# Altium schematic symbol library WR-MPC3.SchLib: 235 symbols (part 4 of 5)
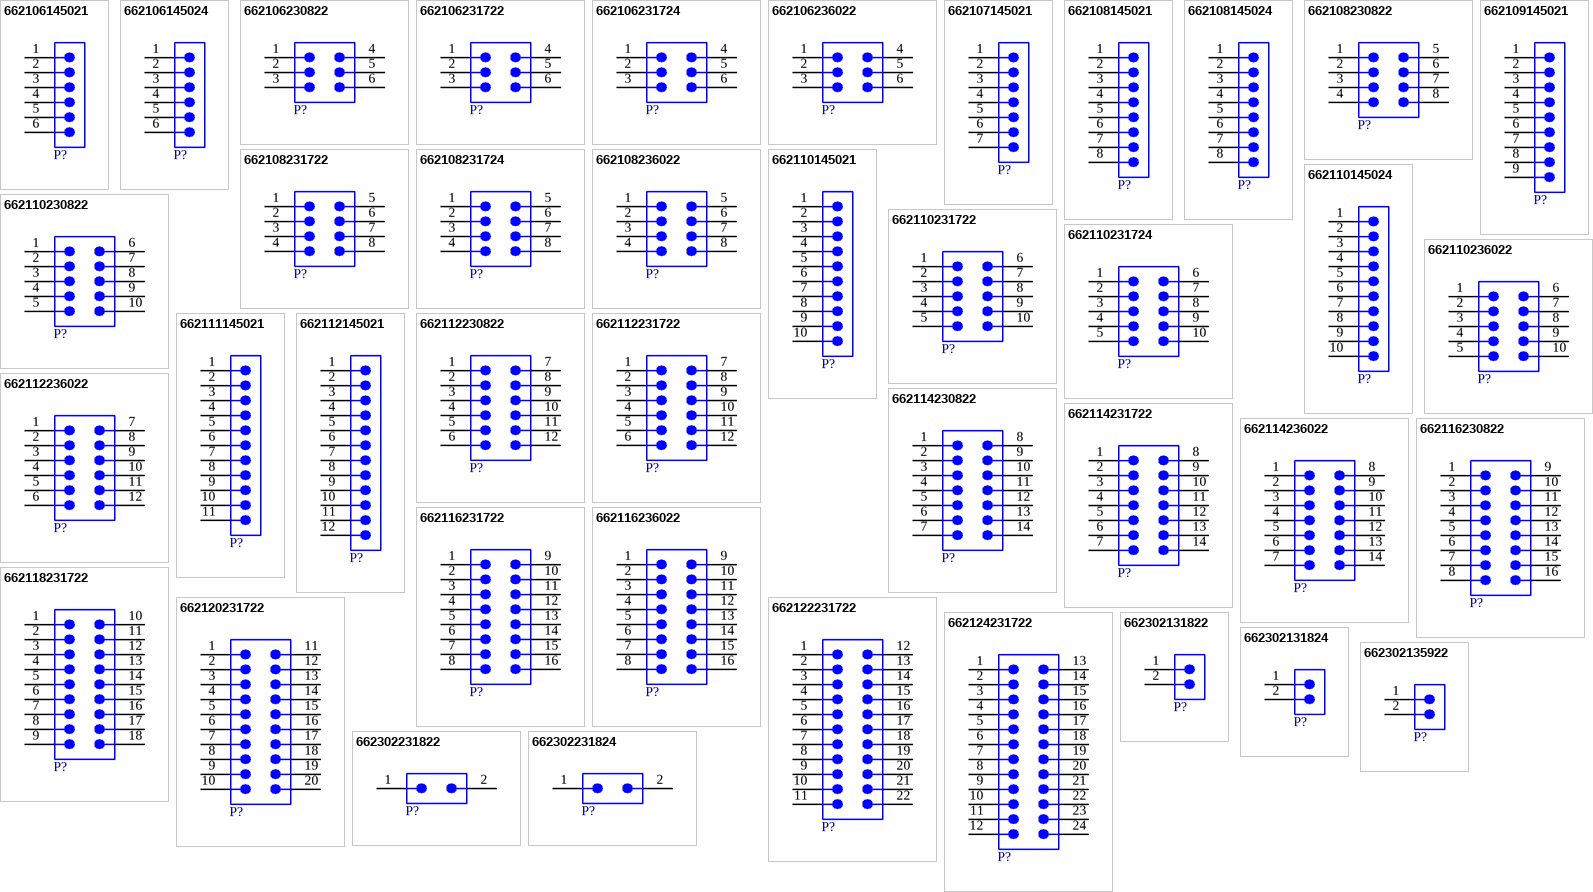
[diagram p8: symbols 662106145021 to 662302231824]

## 662107145021
designator P?  (value not drawn)
WR-MPC3 SMT Male Right Angled Header with SMT Solder Tabs, pitch 3mm, 7p; Manufacturer: Wurth Elektronik; Contact Resistance: 10mOhm; Insulation Resistance: >1000MOhm; Rated Current: 5A; Working Voltage: 250V (AC); Manufacturer Part Number: 662107145021; Category: Wire-to-Board Connectors; Match Code: WR-MPC3; ComponentLink1Description: Website Link; ComponentLink1URL: https://www.we-online.com/redexpert/article/662107145021?ad; ComponentLink2Description: Datasheet Link; ComponentLink2URL: https://www.we-online.com/redexpert/spec/662107145021?ad; Mount: Surface Mount; Operating Temperature Max: 105°C; Operating Temperature Min: -40°C; Packaging: Tape and Reel; Length: 24.65mm; Width: 11.35mm; Height: 5.57mm; Gender: Male; Number of Pins: 7; Number of Rows: 1; Orientation: Right Angled; Pitch: 3mm
footprint 662107145021
pins: 1, 2, 3, 4, 5, 6, 7

## 662108145021
designator P?  (value not drawn)
WR-MPC3 SMT Male Right Angled Header with SMT Solder Tabs, pitch 3mm, 8p; Manufacturer: Wurth Elektronik; Contact Resistance: 10mOhm; Insulation Resistance: >1000MOhm; Rated Current: 5A; Working Voltage: 250V (AC); Manufacturer Part Number: 662108145021; Category: Wire-to-Board Connectors; Match Code: WR-MPC3; ComponentLink1Description: Website Link; ComponentLink1URL: https://www.we-online.com/redexpert/article/662108145021?ad; ComponentLink2Description: Datasheet Link; ComponentLink2URL: https://www.we-online.com/redexpert/spec/662108145021?ad; Mount: Surface Mount; Operating Temperature Max: 105°C; Operating Temperature Min: -40°C; Packaging: Tape and Reel; Length: 27.65mm; Width: 11.35mm; Height: 5.57mm; Gender: Male; Number of Pins: 8; Number of Rows: 1; Orientation: Right Angled; Pitch: 3mm
footprint 662108145021
pins: 1, 2, 3, 4, 5, 6, 7, 8

## 662108145024
designator P?  (value not drawn)
WR-MPC3 SMT Male Header Single Row Right Angled with SMT Solder Tabs (Selective Gold), pitch 3mm, 8p; Manufacturer: Wurth Elektronik; Contact Resistance: 10mOhm; Insulation Resistance: >1000MOhm; Rated Current: 5A; Working Voltage: 250V (AC); Manufacturer Part Number: 662108145024; Category: Wire-to-Board Connectors; Match Code: WR-MPC3; ComponentLink1Description: Website Link; ComponentLink1URL: https://www.we-online.com/redexpert/article/662108145024?ad; ComponentLink2Description: Datasheet Link; ComponentLink2URL: https://www.we-online.com/redexpert/spec/662108145024?ad; Mount: Surface Mount; Operating Temperature Max: 105°C; Operating Temperature Min: -40°C; Packaging: Tape and Reel; Gender: Male; Number of Pins: 8; Number of Rows: 1; Orientation: Right Angled; Pitch: 3mm
footprint 662108145024
pins: 1, 2, 3, 4, 5, 6, 7, 8

## 662108230822
designator P?  (value not drawn)
WR-MPC3 SMT Male Right Angled Header with THT Retention Clip, pitch 3mm, 8p; Manufacturer: Wurth Elektronik; Contact Resistance: 10mOhm; Insulation Resistance: >1000MOhm; Rated Current: 5A; Working Voltage: 250V (AC); Manufacturer Part Number: 662108230822; Category: Wire-to-Board Connectors; Match Code: WR-MPC3; ComponentLink1Description: Website Link; ComponentLink1URL: https://www.we-online.com/redexpert/article/662108230822?ad; ComponentLink2Description: Datasheet Link; ComponentLink2URL: https://www.we-online.com/redexpert/spec/662108230822?ad; Mount: Surface Mount; Operating Temperature Max: 105°C; Operating Temperature Min: -40°C; Packaging: Tape and Reel; Length: 15.7mm; Width: 15.9mm; Height: 8.76mm; Gender: Male; Number of Pins: 8; Number of Rows: 2; Orientation: Right Angled; Pitch: 3mm
footprint 662108230822
pins: 1, 2, 3, 4, 5, 6, 7, 8

## 662108231722
designator P?  (value not drawn)
WR-MPC3 SMT Male Right Angled Header with SMT Solder Tab, pitch 3mm, 8p; Manufacturer: Wurth Elektronik; Contact Resistance: 10mOhm; Insulation Resistance: >1000MOhm; Rated Current: 5A; Working Voltage: 250V (AC); Manufacturer Part Number: 662108231722; Category: Wire-to-Board Connectors; Match Code: WR-MPC3; ComponentLink1Description: Website Link; ComponentLink1URL: https://www.we-online.com/redexpert/article/662108231722?ad; ComponentLink2Description: Datasheet Link; ComponentLink2URL: https://www.we-online.com/redexpert/spec/662108231722?ad; Mount: Surface Mount; Operating Temperature Max: 105°C; Operating Temperature Min: -40°C; Packaging: Tape and Reel; Length: 15.7mm; Width: 9.9mm; Height: 8.76mm; Gender: Male; Number of Pins: 8; Number of Rows: 2; Orientation: Right Angled; Pitch: 3mm
footprint 662108231722
pins: 1, 2, 3, 4, 5, 6, 7, 8

## 662108231724
designator P?  (value not drawn)
WR-MPC3 SMT Male Header Dual Row Right Angled with SMT Solder Tabs (Selective Gold), pitch 3mm, 8p; Manufacturer: Wurth Elektronik; Contact Resistance: 10mOhm; Insulation Resistance: >1000MOhm; Rated Current: 5A; Working Voltage: 250V (AC); Manufacturer Part Number: 662108231724; Category: Wire-to-Board Connectors; Match Code: WR-MPC3; ComponentLink1Description: Website Link; ComponentLink1URL: https://www.we-online.com/redexpert/article/662108231724?ad; ComponentLink2Description: Datasheet Link; ComponentLink2URL: https://www.we-online.com/redexpert/spec/662108231724?ad; Mount: Surface Mount; Operating Temperature Max: 105°C; Operating Temperature Min: -40°C; Packaging: Tape and Reel; Gender: Male; Number of Pins: 8; Number of Rows: 2; Orientation: Right Angled; Pitch: 3mm
footprint 662108231724
pins: 1, 2, 3, 4, 5, 6, 7, 8

## 662108236022
designator P?  (value not drawn)
WR-MPC3 SMT Male Right Angled Header with Plastic Pegs, pitch 3mm, 8p; Manufacturer: Wurth Elektronik; Contact Resistance: 10mOhm; Insulation Resistance: >1000MOhm; Rated Current: 5A; Working Voltage: 250V (AC); Manufacturer Part Number: 662108236022; Category: Wire-to-Board Connectors; Match Code: WR-MPC3; ComponentLink1Description: Website Link; ComponentLink1URL: https://www.we-online.com/redexpert/article/662108236022?ad; ComponentLink2Description: Datasheet Link; ComponentLink2URL: https://www.we-online.com/redexpert/spec/662108236022?ad; Mount: Surface Mount; Operating Temperature Max: 105°C; Operating Temperature Min: -40°C; Packaging: Tape and Reel; Length: 15.7mm; Width: 9.9mm; Height: 8.76mm; Gender: Male; Number of Pins: 8; Number of Rows: 2; Orientation: Right Angled; Pitch: 3mm
footprint 662108236022
pins: 1, 2, 3, 4, 5, 6, 7, 8

## 662109145021
designator P?  (value not drawn)
WR-MPC3 SMT Male Right Angled Header with SMT Solder Tabs, pitch 3mm, 9p; Manufacturer: Wurth Elektronik; Contact Resistance: 10mOhm; Insulation Resistance: >1000MOhm; Rated Current: 5A; Working Voltage: 250V (AC); Manufacturer Part Number: 662109145021; Category: Wire-to-Board Connectors; Match Code: WR-MPC3; ComponentLink1Description: Website Link; ComponentLink1URL: https://www.we-online.com/redexpert/article/662109145021?ad; ComponentLink2Description: Datasheet Link; ComponentLink2URL: https://www.we-online.com/redexpert/spec/662109145021?ad; Mount: Surface Mount; Operating Temperature Max: 105°C; Operating Temperature Min: -40°C; Packaging: Tape and Reel; Length: 30.65mm; Width: 11.35mm; Height: 5.57mm; Gender: Male; Number of Pins: 9; Number of Rows: 1; Orientation: Right Angled; Pitch: 3mm
footprint 662109145021
pins: 1, 2, 3, 4, 5, 6, 7, 8, 9

## 662110145021
designator P?  (value not drawn)
WR-MPC3 SMT Male Right Angled Header with SMT Solder Tabs, pitch 3mm, 10p; Manufacturer: Wurth Elektronik; Contact Resistance: 10mOhm; Insulation Resistance: >1000MOhm; Rated Current: 5A; Working Voltage: 250V (AC); Manufacturer Part Number: 662110145021; Category: Wire-to-Board Connectors; Match Code: WR-MPC3; ComponentLink1Description: Website Link; ComponentLink1URL: https://www.we-online.com/redexpert/article/662110145021?ad; ComponentLink2Description: Datasheet Link; ComponentLink2URL: https://www.we-online.com/redexpert/spec/662110145021?ad; Mount: Surface Mount; Operating Temperature Max: 105°C; Operating Temperature Min: -40°C; Packaging: Tape and Reel; Length: 33.65mm; Width: 11.35mm; Height: 5.57mm; Gender: Male; Number of Pins: 10; Number of Rows: 1; Orientation: Right Angled; Pitch: 3mm
footprint 662110145021
pins: 1, 2, 3, 4, 5, 6, 7, 8, 9, 10

## 662110145024
designator P?  (value not drawn)
WR-MPC3 SMT Male Header Single Row Right Angled with SMT Solder Tabs (Selective Gold), pitch 3mm, 10p; Manufacturer: Wurth Elektronik; Contact Resistance: 10mOhm; Insulation Resistance: >1000MOhm; Rated Current: 5A; Working Voltage: 250V (AC); Manufacturer Part Number: 662110145024; Category: Wire-to-Board Connectors; Match Code: WR-MPC3; ComponentLink1Description: Website Link; ComponentLink1URL: https://www.we-online.com/redexpert/article/662110145024?ad; ComponentLink2Description: Datasheet Link; ComponentLink2URL: https://www.we-online.com/redexpert/spec/662110145024?ad; Mount: Surface Mount; Operating Temperature Max: 105°C; Operating Temperature Min: -40°C; Packaging: Tape and Reel; Gender: Male; Number of Pins: 10; Number of Rows: 1; Orientation: Right Angled; Pitch: 3mm
footprint 662110145024
pins: 1, 2, 3, 4, 5, 6, 7, 8, 9, 10

## 662110230822
designator P?  (value not drawn)
WR-MPC3 SMT Male Right Angled Header with THT Retention Clip, pitch 3mm, 10p; Manufacturer: Wurth Elektronik; Contact Resistance: 10mOhm; Insulation Resistance: >1000MOhm; Rated Current: 5A; Working Voltage: 250V (AC); Manufacturer Part Number: 662110230822; Category: Wire-to-Board Connectors; Match Code: WR-MPC3; ComponentLink1Description: Website Link; ComponentLink1URL: https://www.we-online.com/redexpert/article/662110230822?ad; ComponentLink2Description: Datasheet Link; ComponentLink2URL: https://www.we-online.com/redexpert/spec/662110230822?ad; Mount: Surface Mount; Operating Temperature Max: 105°C; Operating Temperature Min: -40°C; Packaging: Tape and Reel; Length: 18.7mm; Width: 15.9mm; Height: 8.76mm; Gender: Male; Number of Pins: 10; Number of Rows: 2; Orientation: Right Angled; Pitch: 3mm
footprint 662110230822
pins: 1, 2, 3, 4, 5, 6, 7, 8, 9, 10

## 662110231722
designator P?  (value not drawn)
WR-MPC3 SMT Male Right Angled Header with SMT Solder Tab, pitch 3mm, 10p; Manufacturer: Wurth Elektronik; Contact Resistance: 10mOhm; Insulation Resistance: >1000MOhm; Rated Current: 5A; Working Voltage: 250V (AC); Manufacturer Part Number: 662110231722; Category: Wire-to-Board Connectors; Match Code: WR-MPC3; ComponentLink1Description: Website Link; ComponentLink1URL: https://www.we-online.com/redexpert/article/662110231722?ad; ComponentLink2Description: Datasheet Link; ComponentLink2URL: https://www.we-online.com/redexpert/spec/662110231722?ad; Mount: Surface Mount; Operating Temperature Max: 105°C; Operating Temperature Min: -40°C; Packaging: Tape and Reel; Length: 18.7mm; Width: 9.9mm; Height: 8.76mm; Gender: Male; Number of Pins: 10; Number of Rows: 2; Orientation: Right Angled; Pitch: 3mm
footprint 662110231722
pins: 1, 2, 3, 4, 5, 6, 7, 8, 9, 10

## 662110231724
designator P?  (value not drawn)
WR-MPC3 SMT Male Header Dual Row Right Angled with SMT Solder Tabs (Selective Gold), pitch 3mm, 10p; Manufacturer: Wurth Elektronik; Contact Resistance: 10mOhm; Insulation Resistance: >1000MOhm; Rated Current: 5A; Working Voltage: 250V (AC); Manufacturer Part Number: 662110231724; Category: Wire-to-Board Connectors; Match Code: WR-MPC3; ComponentLink1Description: Website Link; ComponentLink1URL: https://www.we-online.com/redexpert/article/662110231724?ad; ComponentLink2Description: Datasheet Link; ComponentLink2URL: https://www.we-online.com/redexpert/spec/662110231724?ad; Mount: Surface Mount; Operating Temperature Max: 105°C; Operating Temperature Min: -40°C; Packaging: Tape and Reel; Gender: Male; Number of Pins: 10; Number of Rows: 2; Orientation: Right Angled; Pitch: 3mm
footprint 662110231724
pins: 1, 2, 3, 4, 5, 6, 7, 8, 9, 10

## 662110236022
designator P?  (value not drawn)
WR-MPC3 SMT Male Right Angled Header with Plastic Pegs, pitch 3mm, 10p; Manufacturer: Wurth Elektronik; Contact Resistance: 10mOhm; Insulation Resistance: >1000MOhm; Rated Current: 5A; Working Voltage: 250V (AC); Manufacturer Part Number: 662110236022; Category: Wire-to-Board Connectors; Match Code: WR-MPC3; ComponentLink1Description: Website Link; ComponentLink1URL: https://www.we-online.com/redexpert/article/662110236022?ad; ComponentLink2Description: Datasheet Link; ComponentLink2URL: https://www.we-online.com/redexpert/spec/662110236022?ad; Mount: Surface Mount; Operating Temperature Max: 105°C; Operating Temperature Min: -40°C; Packaging: Tape and Reel; Length: 18.7mm; Width: 9.9mm; Height: 8.76mm; Gender: Male; Number of Pins: 10; Number of Rows: 2; Orientation: Right Angled; Pitch: 3mm
footprint 662110236022
pins: 1, 2, 3, 4, 5, 6, 7, 8, 9, 10

## 662111145021
designator P?  (value not drawn)
WR-MPC3 SMT Male Right Angled Header with SMT Solder Tabs, pitch 3mm, 11p; Manufacturer: Wurth Elektronik; Contact Resistance: 10mOhm; Insulation Resistance: >1000MOhm; Rated Current: 5A; Working Voltage: 250V (AC); Manufacturer Part Number: 662111145021; Category: Wire-to-Board Connectors; Match Code: WR-MPC3; ComponentLink1Description: Website Link; ComponentLink1URL: https://www.we-online.com/redexpert/article/662111145021?ad; ComponentLink2Description: Datasheet Link; ComponentLink2URL: https://www.we-online.com/redexpert/spec/662111145021?ad; Mount: Surface Mount; Operating Temperature Max: 105°C; Operating Temperature Min: -40°C; Packaging: Tape and Reel; Length: 36.65mm; Width: 11.35mm; Height: 5.57mm; Gender: Male; Number of Pins: 11; Number of Rows: 1; Orientation: Right Angled; Pitch: 3mm
footprint 662111145021
pins: 1, 2, 3, 4, 5, 6, 7, 8, 9, 10, 11

## 662112145021
designator P?  (value not drawn)
WR-MPC3 SMT Male Right Angled Header with SMT Solder Tabs, pitch 3mm, 12p; Manufacturer: Wurth Elektronik; Contact Resistance: 10mOhm; Insulation Resistance: >1000MOhm; Rated Current: 5A; Working Voltage: 250V (AC); Manufacturer Part Number: 662112145021; Category: Wire-to-Board Connectors; Match Code: WR-MPC3; ComponentLink1Description: Website Link; ComponentLink1URL: https://www.we-online.com/redexpert/article/662112145021?ad; ComponentLink2Description: Datasheet Link; ComponentLink2URL: https://www.we-online.com/redexpert/spec/662112145021?ad; Mount: Surface Mount; Operating Temperature Max: 105°C; Operating Temperature Min: -40°C; Packaging: Tape and Reel; Length: 39.65mm; Width: 11.35mm; Height: 5.57mm; Gender: Male; Number of Pins: 12; Number of Rows: 1; Orientation: Right Angled; Pitch: 3mm
footprint 662112145021
pins: 1, 2, 3, 4, 5, 6, 7, 8, 9, 10, 11, 12

## 662112230822
designator P?  (value not drawn)
WR-MPC3 SMT Male Right Angled Header with THT Retention Clip, pitch 3mm, 12p; Manufacturer: Wurth Elektronik; Contact Resistance: 10mOhm; Insulation Resistance: >1000MOhm; Rated Current: 5A; Working Voltage: 250V (AC); Manufacturer Part Number: 662112230822; Category: Wire-to-Board Connectors; Match Code: WR-MPC3; ComponentLink1Description: Website Link; ComponentLink1URL: https://www.we-online.com/redexpert/article/662112230822?ad; ComponentLink2Description: Datasheet Link; ComponentLink2URL: https://www.we-online.com/redexpert/spec/662112230822?ad; Mount: Surface Mount; Operating Temperature Max: 105°C; Operating Temperature Min: -40°C; Packaging: Tape and Reel; Length: 21.7mm; Width: 15.9mm; Height: 8.76mm; Gender: Male; Number of Pins: 12; Number of Rows: 2; Orientation: Right Angled; Pitch: 3mm
footprint 662112230822
pins: 1, 2, 3, 4, 5, 6, 7, 8, 9, 10, 11, 12

## 662112231722
designator P?  (value not drawn)
WR-MPC3 SMT Male Right Angled Header with SMT Solder Tab, pitch 3mm, 12p; Manufacturer: Wurth Elektronik; Contact Resistance: 10mOhm; Insulation Resistance: >1000MOhm; Rated Current: 5A; Working Voltage: 250V (AC); Manufacturer Part Number: 662112231722; Category: Wire-to-Board Connectors; Match Code: WR-MPC3; ComponentLink1Description: Website Link; ComponentLink1URL: https://www.we-online.com/redexpert/article/662112231722?ad; ComponentLink2Description: Datasheet Link; ComponentLink2URL: https://www.we-online.com/redexpert/spec/662112231722?ad; Mount: Surface Mount; Operating Temperature Max: 105°C; Operating Temperature Min: -40°C; Packaging: Tape and Reel; Length: 21.7mm; Width: 9.9mm; Height: 8.76mm; Gender: Male; Number of Pins: 12; Number of Rows: 2; Orientation: Right Angled; Pitch: 3mm
footprint 662112231722
pins: 1, 2, 3, 4, 5, 6, 7, 8, 9, 10, 11, 12

## 662112236022
designator P?  (value not drawn)
WR-MPC3 SMT Male Right Angled Header with Plastic Pegs, pitch 3mm, 12p; Manufacturer: Wurth Elektronik; Contact Resistance: 10mOhm; Insulation Resistance: >1000MOhm; Rated Current: 5A; Working Voltage: 250V (AC); Manufacturer Part Number: 662112236022; Category: Wire-to-Board Connectors; Match Code: WR-MPC3; ComponentLink1Description: Website Link; ComponentLink1URL: https://www.we-online.com/redexpert/article/662112236022?ad; ComponentLink2Description: Datasheet Link; ComponentLink2URL: https://www.we-online.com/redexpert/spec/662112236022?ad; Mount: Surface Mount; Operating Temperature Max: 105°C; Operating Temperature Min: -40°C; Packaging: Tape and Reel; Length: 21.7mm; Width: 9.9mm; Height: 8.76mm; Gender: Male; Number of Pins: 12; Number of Rows: 2; Orientation: Right Angled; Pitch: 3mm
footprint 662112236022
pins: 1, 2, 3, 4, 5, 6, 7, 8, 9, 10, 11, 12

## 662114230822
designator P?  (value not drawn)
WR-MPC3 SMT Male Right Angled Header with THT Retention Clip, pitch 3mm, 14p; Manufacturer: Wurth Elektronik; Contact Resistance: 10mOhm; Insulation Resistance: >1000MOhm; Rated Current: 5A; Working Voltage: 250V (AC); Manufacturer Part Number: 662114230822; Category: Wire-to-Board Connectors; Match Code: WR-MPC3; ComponentLink1Description: Website Link; ComponentLink1URL: https://www.we-online.com/redexpert/article/662114230822?ad; ComponentLink2Description: Datasheet Link; ComponentLink2URL: https://www.we-online.com/redexpert/spec/662114230822?ad; Mount: Surface Mount; Operating Temperature Max: 105°C; Operating Temperature Min: -40°C; Packaging: Tape and Reel; Length: 24.7mm; Width: 15.9mm; Height: 8.76mm; Gender: Male; Number of Pins: 14; Number of Rows: 2; Orientation: Right Angled; Pitch: 3mm
footprint 662114230822
pins: 1, 2, 3, 4, 5, 6, 7, 8, 9, 10, 11, 12, 13, 14

## 662114231722
designator P?  (value not drawn)
WR-MPC3 SMT Male Right Angled Header with SMT Solder Tab, pitch 3mm, 14p; Manufacturer: Wurth Elektronik; Contact Resistance: 10mOhm; Insulation Resistance: >1000MOhm; Rated Current: 5A; Working Voltage: 250V (AC); Manufacturer Part Number: 662114231722; Category: Wire-to-Board Connectors; Match Code: WR-MPC3; ComponentLink1Description: Website Link; ComponentLink1URL: https://www.we-online.com/redexpert/article/662114231722?ad; ComponentLink2Description: Datasheet Link; ComponentLink2URL: https://www.we-online.com/redexpert/spec/662114231722?ad; Mount: Surface Mount; Operating Temperature Max: 105°C; Operating Temperature Min: -40°C; Packaging: Tape and Reel; Length: 24.7mm; Width: 9.9mm; Height: 8.76mm; Gender: Male; Number of Pins: 14; Number of Rows: 2; Orientation: Right Angled; Pitch: 3mm
footprint 662114231722
pins: 1, 2, 3, 4, 5, 6, 7, 8, 9, 10, 11, 12, 13, 14

## 662114236022
designator P?  (value not drawn)
WR-MPC3 SMT Male Right Angled Header with Plastic Pegs, pitch 3mm, 14p; Manufacturer: Wurth Elektronik; Contact Resistance: 10mOhm; Insulation Resistance: >1000MOhm; Rated Current: 5A; Working Voltage: 250V (AC); Manufacturer Part Number: 662114236022; Category: Wire-to-Board Connectors; Match Code: WR-MPC3; ComponentLink1Description: Website Link; ComponentLink1URL: https://www.we-online.com/redexpert/article/662114236022?ad; ComponentLink2Description: Datasheet Link; ComponentLink2URL: https://www.we-online.com/redexpert/spec/662114236022?ad; Mount: Surface Mount; Operating Temperature Max: 105°C; Operating Temperature Min: -40°C; Packaging: Tape and Reel; Length: 24.7mm; Width: 9.9mm; Height: 8.76mm; Gender: Male; Number of Pins: 14; Number of Rows: 2; Orientation: Right Angled; Pitch: 3mm
footprint 662114236022
pins: 1, 2, 3, 4, 5, 6, 7, 8, 9, 10, 11, 12, 13, 14

## 662116230822
designator P?  (value not drawn)
WR-MPC3 SMT Male Right Angled Header with THT Retention Clip, pitch 3mm, 16p; Manufacturer: Wurth Elektronik; Contact Resistance: 10mOhm; Insulation Resistance: >1000MOhm; Rated Current: 5A; Working Voltage: 250V (AC); Manufacturer Part Number: 662116230822; Category: Wire-to-Board Connectors; Match Code: WR-MPC3; ComponentLink1Description: Website Link; ComponentLink1URL: https://www.we-online.com/redexpert/article/662116230822?ad; ComponentLink2Description: Datasheet Link; ComponentLink2URL: https://www.we-online.com/redexpert/spec/662116230822?ad; Mount: Surface Mount; Operating Temperature Max: 105°C; Operating Temperature Min: -40°C; Packaging: Tape and Reel; Length: 27.7mm; Width: 15.9mm; Height: 8.76mm; Gender: Male; Number of Pins: 16; Number of Rows: 2; Orientation: Right Angled; Pitch: 3mm
footprint 662116230822
pins: 1, 2, 3, 4, 5, 6, 7, 8, 9, 10, 11, 12, 13, 14, 15, 16

## 662116231722
designator P?  (value not drawn)
WR-MPC3 SMT Male Right Angled Header with SMT Solder Tab, pitch 3mm, 16p; Manufacturer: Wurth Elektronik; Contact Resistance: 10mOhm; Insulation Resistance: >1000MOhm; Rated Current: 5A; Working Voltage: 250V (AC); Manufacturer Part Number: 662116231722; Category: Wire-to-Board Connectors; Match Code: WR-MPC3; ComponentLink1Description: Website Link; ComponentLink1URL: https://www.we-online.com/redexpert/article/662116231722?ad; ComponentLink2Description: Datasheet Link; ComponentLink2URL: https://www.we-online.com/redexpert/spec/662116231722?ad; Mount: Surface Mount; Operating Temperature Max: 105°C; Operating Temperature Min: -40°C; Packaging: Tape and Reel; Length: 27.7mm; Width: 9.9mm; Height: 8.76mm; Gender: Male; Number of Pins: 16; Number of Rows: 2; Orientation: Right Angled; Pitch: 3mm
footprint 662116231722
pins: 1, 2, 3, 4, 5, 6, 7, 8, 9, 10, 11, 12, 13, 14, 15, 16

## 662116236022
designator P?  (value not drawn)
WR-MPC3 SMT Male Right Angled Header with Plastic Pegs, pitch 3mm, 16p; Manufacturer: Wurth Elektronik; Contact Resistance: 10mOhm; Insulation Resistance: >1000MOhm; Rated Current: 5A; Working Voltage: 250V (AC); Manufacturer Part Number: 662116236022; Category: Wire-to-Board Connectors; Match Code: WR-MPC3; ComponentLink1Description: Website Link; ComponentLink1URL: https://www.we-online.com/redexpert/article/662116236022?ad; ComponentLink2Description: Datasheet Link; ComponentLink2URL: https://www.we-online.com/redexpert/spec/662116236022?ad; Mount: Surface Mount; Operating Temperature Max: 105°C; Operating Temperature Min: -40°C; Packaging: Tape and Reel; Length: 27.7mm; Width: 9.9mm; Height: 8.76mm; Gender: Male; Number of Pins: 16; Number of Rows: 2; Orientation: Right Angled; Pitch: 3mm
footprint 662116236022
pins: 1, 2, 3, 4, 5, 6, 7, 8, 9, 10, 11, 12, 13, 14, 15, 16

## 662118231722
designator P?  (value not drawn)
WR-MPC3 SMT Male Right Angled Header with SMT Solder Tab, pitch 3mm, 18p; Manufacturer: Wurth Elektronik; Contact Resistance: 10mOhm; Insulation Resistance: >1000MOhm; Rated Current: 5A; Working Voltage: 250V (AC); Manufacturer Part Number: 662118231722; Category: Wire-to-Board Connectors; Match Code: WR-MPC3; ComponentLink1Description: Website Link; ComponentLink1URL: https://www.we-online.com/redexpert/article/662118231722?ad; ComponentLink2Description: Datasheet Link; ComponentLink2URL: https://www.we-online.com/redexpert/spec/662118231722?ad; Mount: Surface Mount; Operating Temperature Max: 105°C; Operating Temperature Min: -40°C; Packaging: Tape and Reel; Length: 30.7mm; Width: 9.9mm; Height: 8.76mm; Gender: Male; Number of Pins: 18; Number of Rows: 2; Orientation: Right Angled; Pitch: 3mm
footprint 662118231722
pins: 1, 2, 3, 4, 5, 6, 7, 8, 9, 10, 11, 12, 13, 14, 15, 16, 17, 18

## 662120231722
designator P?  (value not drawn)
WR-MPC3 SMT Male Right Angled Header with SMT Solder Tab, pitch 3mm, 20p; Manufacturer: Wurth Elektronik; Contact Resistance: 10mOhm; Insulation Resistance: >1000MOhm; Rated Current: 5A; Working Voltage: 250V (AC); Manufacturer Part Number: 662120231722; Category: Wire-to-Board Connectors; Match Code: WR-MPC3; ComponentLink1Description: Website Link; ComponentLink1URL: https://www.we-online.com/redexpert/article/662120231722?ad; ComponentLink2Description: Datasheet Link; ComponentLink2URL: https://www.we-online.com/redexpert/spec/662120231722?ad; Mount: Surface Mount; Operating Temperature Max: 105°C; Operating Temperature Min: -40°C; Packaging: Tape and Reel; Length: 33.7mm; Width: 9.9mm; Height: 8.76mm; Gender: Male; Number of Pins: 20; Number of Rows: 2; Orientation: Right Angled; Pitch: 3mm
footprint 662120231722
pins: 1, 2, 3, 4, 5, 6, 7, 8, 9, 10, 11, 12, 13, 14, 15, 16, 17, 18, 19, 20

## 662122231722
designator P?  (value not drawn)
WR-MPC3 SMT Male Right Angled Header with SMT Solder Tab, pitch 3mm, 22p; Manufacturer: Wurth Elektronik; Contact Resistance: 10mOhm; Insulation Resistance: >1000MOhm; Rated Current: 5A; Working Voltage: 250V (AC); Manufacturer Part Number: 662122231722; Category: Wire-to-Board Connectors; Match Code: WR-MPC3; ComponentLink1Description: Website Link; ComponentLink1URL: https://www.we-online.com/redexpert/article/662122231722?ad; ComponentLink2Description: Datasheet Link; ComponentLink2URL: https://www.we-online.com/redexpert/spec/662122231722?ad; Mount: Surface Mount; Operating Temperature Max: 105°C; Operating Temperature Min: -40°C; Packaging: Tape and Reel; Length: 36.7mm; Width: 9.9mm; Height: 8.76mm; Gender: Male; Number of Pins: 22; Number of Rows: 2; Orientation: Right Angled; Pitch: 3mm
footprint 662122231722
pins: 1, 2, 3, 4, 5, 6, 7, 8, 9, 10, 11, 12, 13, 14, 15, 16, 17, 18, 19, 20, 21, 22

## 662124231722
designator P?  (value not drawn)
WR-MPC3 SMT Male Right Angled Header with SMT Solder Tab, pitch 3mm, 24p; Manufacturer: Wurth Elektronik; Contact Resistance: 10mOhm; Insulation Resistance: >1000MOhm; Rated Current: 5A; Working Voltage: 250V (AC); Manufacturer Part Number: 662124231722; Category: Wire-to-Board Connectors; Match Code: WR-MPC3; ComponentLink1Description: Website Link; ComponentLink1URL: https://www.we-online.com/redexpert/article/662124231722?ad; ComponentLink2Description: Datasheet Link; ComponentLink2URL: https://www.we-online.com/redexpert/spec/662124231722?ad; Mount: Surface Mount; Operating Temperature Max: 105°C; Operating Temperature Min: -40°C; Packaging: Tape and Reel; Length: 39.7mm; Width: 9.9mm; Height: 8.76mm; Gender: Male; Number of Pins: 24; Number of Rows: 2; Orientation: Right Angled; Pitch: 3mm
footprint 662124231722
pins: 1, 2, 3, 4, 5, 6, 7, 8, 9, 10, 11, 12, 13, 14, 15, 16, 17, 18, 19, 20, 21, 22, 23, 24

## 662302131822
designator P?  (value not drawn)
WR-MPC3 SMT Male Vertical Header with SMT Solder Tab, pitch 3mm, 2p; Manufacturer: Wurth Elektronik; Contact Resistance: 10mOhm; Insulation Resistance: >1000MOhm; Rated Current: 5A; Working Voltage: 250V (AC); Manufacturer Part Number: 662302131822; Category: Wire-to-Board Connectors; Match Code: WR-MPC3; ComponentLink1Description: Website Link; ComponentLink1URL: https://www.we-online.com/redexpert/article/662302131822?ad; ComponentLink2Description: Datasheet Link; ComponentLink2URL: https://www.we-online.com/redexpert/spec/662302131822?ad; Mount: Surface Mount; Operating Temperature Max: 105°C; Operating Temperature Min: -40°C; Packaging: Tape and Reel with Cap; Length: 9.65mm; Width: 6.87mm; Height: 9.9mm; Gender: Male; Number of Pins: 2; Number of Rows: 1; Orientation: Vertical; Pitch: 3mm
footprint 662302131822
pins: 1, 2

## 662302131824
designator P?  (value not drawn)
WR-MPC3 SMT Male Header Single Row Vertical with SMT Solder Tabs (Selective Gold), pitch 3mm, 2p; Manufacturer: Wurth Elektronik; Contact Resistance: 10mOhm; Insulation Resistance: >1000MOhm; Rated Current: 5A; Working Voltage: 250V (AC); Manufacturer Part Number: 662302131824; Category: Wire-to-Board Connectors; Match Code: WR-MPC3; ComponentLink1Description: Website Link; ComponentLink1URL: https://www.we-online.com/redexpert/article/662302131824?ad; ComponentLink2Description: Datasheet Link; ComponentLink2URL: https://www.we-online.com/redexpert/spec/662302131824?ad; Mount: Surface Mount; Operating Temperature Max: 105°C; Operating Temperature Min: -40°C; Packaging: Tape and Reel; Gender: Male; Number of Pins: 2; Number of Rows: 1; Orientation: Vertical; Pitch: 3mm
footprint 662302131824
pins: 1, 2

## 662302135922
designator P?  (value not drawn)
WR-MPC3 SMT Male Vertical Header with THT Retention Clip, pitch 3mm, 2p; Manufacturer: Wurth Elektronik; Contact Resistance: 10mOhm; Insulation Resistance: >1000MOhm; Rated Current: 5A; Working Voltage: 250V (AC); Manufacturer Part Number: 662302135922; Category: Wire-to-Board Connectors; Match Code: WR-MPC3; ComponentLink1Description: Website Link; ComponentLink1URL: https://www.we-online.com/redexpert/article/662302135922?ad; ComponentLink2Description: Datasheet Link; ComponentLink2URL: https://www.we-online.com/redexpert/spec/662302135922?ad; Mount: Surface Mount; Operating Temperature Max: 105°C; Operating Temperature Min: -40°C; Packaging: Tape and Reel with Cap; Length: 9.65mm; Width: 6.63mm; Height: 9.9mm; Gender: Male; Number of Pins: 2; Number of Rows: 1; Orientation: Vertical; Pitch: 3mm
footprint 662302135922
pins: 1, 2

## 662302231822
designator P?  (value not drawn)
WR-MPC3 SMT Male Vertical Header with SMT Solder Tab, pitch 3mm, 2p; Manufacturer: Wurth Elektronik; Contact Resistance: 10mOhm; Insulation Resistance: >1000MOhm; Rated Current: 5A; Working Voltage: 250V (AC); Manufacturer Part Number: 662302231822; Category: Wire-to-Board Connectors; Match Code: WR-MPC3; ComponentLink1Description: Website Link; ComponentLink1URL: https://www.we-online.com/redexpert/article/662302231822?ad; ComponentLink2Description: Datasheet Link; ComponentLink2URL: https://www.we-online.com/redexpert/spec/662302231822?ad; Mount: Surface Mount; Operating Temperature Max: 105°C; Operating Temperature Min: -40°C; Packaging: Tape and Reel with Cap; Length: 6.7mm; Width: 11.4mm; Height: 11.4mm; Gender: Male; Number of Pins: 2; Number of Rows: 2; Orientation: Vertical; Pitch: 3mm
footprint 662302231822
pins: 1, 2

## 662302231824
designator P?  (value not drawn)
WR-MPC3 SMT Male Header Dual Row Vertical with SMT Solder Tabs (Selective Gold), pitch 3mm, 2p; Manufacturer: Wurth Elektronik; Contact Resistance: 10mOhm; Insulation Resistance: >1000MOhm; Rated Current: 5A; Working Voltage: 250V (AC); Manufacturer Part Number: 662302231824; Category: Wire-to-Board Connectors; Match Code: WR-MPC3; ComponentLink1Description: Website Link; ComponentLink1URL: https://www.we-online.com/redexpert/article/662302231824?ad; ComponentLink2Description: Datasheet Link; ComponentLink2URL: https://www.we-online.com/redexpert/spec/662302231824?ad; Mount: Surface Mount; Operating Temperature Max: 105°C; Operating Temperature Min: -40°C; Packaging: Tape and Reel; Gender: Male; Number of Pins: 2; Number of Rows: 2; Orientation: Vertical; Pitch: 3mm
footprint 662302231824
pins: 1, 2

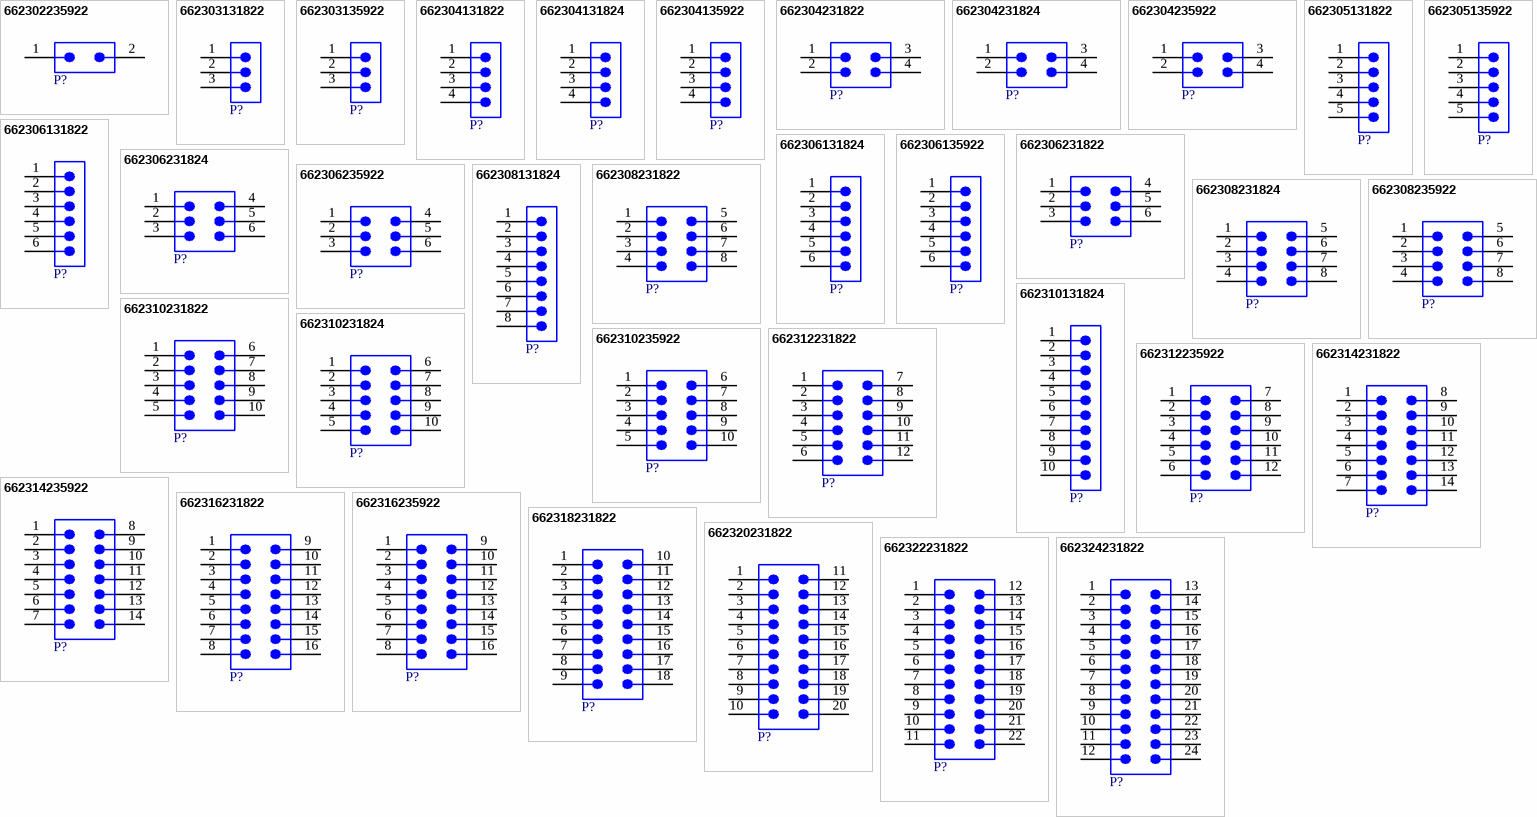
[diagram p5: symbols 662302235922 to 662324231822]

## 662302235922
designator P?  (value not drawn)
WR-MPC3 SMT Male Vertical Header with THT Retention Clip, pitch 3mm, 2p; Manufacturer: Wurth Elektronik; Contact Resistance: 10mOhm; Insulation Resistance: >1000MOhm; Rated Current: 5A; Working Voltage: 250V (AC); Manufacturer Part Number: 662302235922; Category: Wire-to-Board Connectors; Match Code: WR-MPC3; ComponentLink1Description: Website Link; ComponentLink1URL: https://www.we-online.com/redexpert/article/662302235922?ad; ComponentLink2Description: Datasheet Link; ComponentLink2URL: https://www.we-online.com/redexpert/spec/662302235922?ad; Mount: Surface Mount; Operating Temperature Max: 105°C; Operating Temperature Min: -40°C; Packaging: Tape and Reel with Cap; Length: 6.7mm; Width: 11.4mm; Height: 9.9mm; Gender: Male; Number of Pins: 2; Number of Rows: 2; Orientation: Vertical; Pitch: 3mm
footprint 662302235922
pins: 1, 2

## 662303131822
designator P?  (value not drawn)
WR-MPC3 SMT Male Vertical Header with SMT Solder Tab, pitch 3mm, 3p; Manufacturer: Wurth Elektronik; Contact Resistance: 10mOhm; Insulation Resistance: >1000MOhm; Rated Current: 5A; Working Voltage: 250V (AC); Manufacturer Part Number: 662303131822; Category: Wire-to-Board Connectors; Match Code: WR-MPC3; ComponentLink1Description: Website Link; ComponentLink1URL: https://www.we-online.com/redexpert/article/662303131822?ad; ComponentLink2Description: Datasheet Link; ComponentLink2URL: https://www.we-online.com/redexpert/spec/662303131822?ad; Mount: Surface Mount; Operating Temperature Max: 105°C; Operating Temperature Min: -40°C; Packaging: Tape and Reel with Cap; Length: 12.65mm; Width: 6.87mm; Height: 9.9mm; Gender: Male; Number of Pins: 3; Number of Rows: 1; Orientation: Vertical; Pitch: 3mm
footprint 662303131822
pins: 1, 2, 3

## 662303135922
designator P?  (value not drawn)
WR-MPC3 SMT Male Vertical Header with THT Retention Clip, pitch 3mm, 3p; Manufacturer: Wurth Elektronik; Contact Resistance: 10mOhm; Insulation Resistance: >1000MOhm; Rated Current: 5A; Working Voltage: 250V (AC); Manufacturer Part Number: 662303135922; Category: Wire-to-Board Connectors; Match Code: WR-MPC3; ComponentLink1Description: Website Link; ComponentLink1URL: https://www.we-online.com/redexpert/article/662303135922?ad; ComponentLink2Description: Datasheet Link; ComponentLink2URL: https://www.we-online.com/redexpert/spec/662303135922?ad; Mount: Surface Mount; Operating Temperature Max: 105°C; Operating Temperature Min: -40°C; Packaging: Tape and Reel with Cap; Length: 12.65mm; Width: 6.63mm; Height: 9.9mm; Gender: Male; Number of Pins: 3; Number of Rows: 1; Orientation: Vertical; Pitch: 3mm
footprint 662303135922
pins: 1, 2, 3

## 662304131822
designator P?  (value not drawn)
WR-MPC3 SMT Male Vertical Header with SMT Solder Tab, pitch 3mm, 4p; Manufacturer: Wurth Elektronik; Contact Resistance: 10mOhm; Insulation Resistance: >1000MOhm; Rated Current: 5A; Working Voltage: 250V (AC); Manufacturer Part Number: 662304131822; Category: Wire-to-Board Connectors; Match Code: WR-MPC3; ComponentLink1Description: Website Link; ComponentLink1URL: https://www.we-online.com/redexpert/article/662304131822?ad; ComponentLink2Description: Datasheet Link; ComponentLink2URL: https://www.we-online.com/redexpert/spec/662304131822?ad; Mount: Surface Mount; Operating Temperature Max: 105°C; Operating Temperature Min: -40°C; Packaging: Tape and Reel with Cap; Length: 15.65mm; Width: 6.87mm; Height: 9.9mm; Gender: Male; Number of Pins: 4; Number of Rows: 1; Orientation: Vertical; Pitch: 3mm
footprint 662304131822
pins: 1, 2, 3, 4

## 662304131824
designator P?  (value not drawn)
WR-MPC3 SMT Male Header Single Row Vertical with SMT Solder Tabs (Selective Gold), pitch 3mm, 4p; Manufacturer: Wurth Elektronik; Contact Resistance: 10mOhm; Insulation Resistance: >1000MOhm; Rated Current: 5A; Working Voltage: 250V (AC); Manufacturer Part Number: 662304131824; Category: Wire-to-Board Connectors; Match Code: WR-MPC3; ComponentLink1Description: Website Link; ComponentLink1URL: https://www.we-online.com/redexpert/article/662304131824?ad; ComponentLink2Description: Datasheet Link; ComponentLink2URL: https://www.we-online.com/redexpert/spec/662304131824?ad; Mount: Surface Mount; Operating Temperature Max: 105°C; Operating Temperature Min: -40°C; Packaging: Tape and Reel; Gender: Male; Number of Pins: 4; Number of Rows: 1; Orientation: Vertical; Pitch: 3mm
footprint 662304131824
pins: 1, 2, 3, 4

## 662304135922
designator P?  (value not drawn)
WR-MPC3 SMT Male Vertical Header with THT Retention Clip, pitch 3mm, 4p; Manufacturer: Wurth Elektronik; Contact Resistance: 10mOhm; Insulation Resistance: >1000MOhm; Rated Current: 5A; Working Voltage: 250V (AC); Manufacturer Part Number: 662304135922; Category: Wire-to-Board Connectors; Match Code: WR-MPC3; ComponentLink1Description: Website Link; ComponentLink1URL: https://www.we-online.com/redexpert/article/662304135922?ad; ComponentLink2Description: Datasheet Link; ComponentLink2URL: https://www.we-online.com/redexpert/spec/662304135922?ad; Mount: Surface Mount; Operating Temperature Max: 105°C; Operating Temperature Min: -40°C; Packaging: Tape and Reel with Cap; Length: 15.65mm; Width: 6.63mm; Height: 9.9mm; Gender: Male; Number of Pins: 4; Number of Rows: 1; Orientation: Vertical; Pitch: 3mm
footprint 662304135922
pins: 1, 2, 3, 4

## 662304231822
designator P?  (value not drawn)
WR-MPC3 SMT Male Vertical Header with SMT Solder Tab, pitch 3mm, 4p; Manufacturer: Wurth Elektronik; Contact Resistance: 10mOhm; Insulation Resistance: >1000MOhm; Rated Current: 5A; Working Voltage: 250V (AC); Manufacturer Part Number: 662304231822; Category: Wire-to-Board Connectors; Match Code: WR-MPC3; ComponentLink1Description: Website Link; ComponentLink1URL: https://www.we-online.com/redexpert/article/662304231822?ad; ComponentLink2Description: Datasheet Link; ComponentLink2URL: https://www.we-online.com/redexpert/spec/662304231822?ad; Mount: Surface Mount; Operating Temperature Max: 105°C; Operating Temperature Min: -40°C; Packaging: Tape and Reel with Cap; Length: 9.7mm; Width: 11.4mm; Height: 11.4mm; Gender: Male; Number of Pins: 4; Number of Rows: 2; Orientation: Vertical; Pitch: 3mm
footprint 662304231822
pins: 1, 2, 3, 4

## 662304231824
designator P?  (value not drawn)
WR-MPC3 SMT Male Header Dual Row Vertical with SMT Solder Tabs (Selective Gold), pitch 3mm, 4p; Manufacturer: Wurth Elektronik; Contact Resistance: 10mOhm; Insulation Resistance: >1000MOhm; Rated Current: 5A; Working Voltage: 250V (AC); Manufacturer Part Number: 662304231824; Category: Wire-to-Board Connectors; Match Code: WR-MPC3; ComponentLink1Description: Website Link; ComponentLink1URL: https://www.we-online.com/redexpert/article/662304231824?ad; ComponentLink2Description: Datasheet Link; ComponentLink2URL: https://www.we-online.com/redexpert/spec/662304231824?ad; Mount: Surface Mount; Operating Temperature Max: 105°C; Operating Temperature Min: -40°C; Packaging: Tape and Reel; Gender: Male; Number of Pins: 4; Number of Rows: 2; Orientation: Vertical; Pitch: 3mm
footprint 662304231824
pins: 1, 2, 3, 4

## 662304235922
designator P?  (value not drawn)
WR-MPC3 SMT Male Vertical Header with THT Retention Clip, pitch 3mm, 4p; Manufacturer: Wurth Elektronik; Contact Resistance: 10mOhm; Insulation Resistance: >1000MOhm; Rated Current: 5A; Working Voltage: 250V (AC); Manufacturer Part Number: 662304235922; Category: Wire-to-Board Connectors; Match Code: WR-MPC3; ComponentLink1Description: Website Link; ComponentLink1URL: https://www.we-online.com/redexpert/article/662304235922?ad; ComponentLink2Description: Datasheet Link; ComponentLink2URL: https://www.we-online.com/redexpert/spec/662304235922?ad; Mount: Surface Mount; Operating Temperature Max: 105°C; Operating Temperature Min: -40°C; Packaging: Tape and Reel with Cap; Length: 9.7mm; Width: 11.4mm; Height: 9.9mm; Gender: Male; Number of Pins: 4; Number of Rows: 2; Orientation: Vertical; Pitch: 3mm
footprint 662304235922
pins: 1, 2, 3, 4

## 662305131822
designator P?  (value not drawn)
WR-MPC3 SMT Male Vertical Header with SMT Solder Tab, pitch 3mm, 5p; Manufacturer: Wurth Elektronik; Contact Resistance: 10mOhm; Insulation Resistance: >1000MOhm; Rated Current: 5A; Working Voltage: 250V (AC); Manufacturer Part Number: 662305131822; Category: Wire-to-Board Connectors; Match Code: WR-MPC3; ComponentLink1Description: Website Link; ComponentLink1URL: https://www.we-online.com/redexpert/article/662305131822?ad; ComponentLink2Description: Datasheet Link; ComponentLink2URL: https://www.we-online.com/redexpert/spec/662305131822?ad; Mount: Surface Mount; Operating Temperature Max: 105°C; Operating Temperature Min: -40°C; Packaging: Tape and Reel with Cap; Length: 18.65mm; Width: 6.87mm; Height: 9.9mm; Gender: Male; Number of Pins: 5; Number of Rows: 1; Orientation: Vertical; Pitch: 3mm
footprint 662305131822
pins: 1, 2, 3, 4, 5

## 662305135922
designator P?  (value not drawn)
WR-MPC3 SMT Male Vertical Header with THT Retention Clip, pitch 3mm, 5p; Manufacturer: Wurth Elektronik; Contact Resistance: 10mOhm; Insulation Resistance: >1000MOhm; Rated Current: 5A; Working Voltage: 250V (AC); Manufacturer Part Number: 662305135922; Category: Wire-to-Board Connectors; Match Code: WR-MPC3; ComponentLink1Description: Website Link; ComponentLink1URL: https://www.we-online.com/redexpert/article/662305135922?ad; ComponentLink2Description: Datasheet Link; ComponentLink2URL: https://www.we-online.com/redexpert/spec/662305135922?ad; Mount: Surface Mount; Operating Temperature Max: 105°C; Operating Temperature Min: -40°C; Packaging: Tape and Reel with Cap; Length: 18.65mm; Width: 6.63mm; Height: 9.9mm; Gender: Male; Number of Pins: 5; Number of Rows: 1; Orientation: Vertical; Pitch: 3mm
footprint 662305135922
pins: 1, 2, 3, 4, 5

## 662306131822
designator P?  (value not drawn)
WR-MPC3 SMT Male Vertical Header with SMT Solder Tab, pitch 3mm, 6p; Manufacturer: Wurth Elektronik; Contact Resistance: 10mOhm; Insulation Resistance: >1000MOhm; Rated Current: 5A; Working Voltage: 250V (AC); Manufacturer Part Number: 662306131822; Category: Wire-to-Board Connectors; Match Code: WR-MPC3; ComponentLink1Description: Website Link; ComponentLink1URL: https://www.we-online.com/redexpert/article/662306131822?ad; ComponentLink2Description: Datasheet Link; ComponentLink2URL: https://www.we-online.com/redexpert/spec/662306131822?ad; Mount: Surface Mount; Operating Temperature Max: 105°C; Operating Temperature Min: -40°C; Packaging: Tape and Reel with Cap; Length: 21.65mm; Width: 6.87mm; Height: 9.9mm; Gender: Male; Number of Pins: 6; Number of Rows: 1; Orientation: Vertical; Pitch: 3mm
footprint 662306131822
pins: 1, 2, 3, 4, 5, 6

## 662306131824
designator P?  (value not drawn)
WR-MPC3 SMT Male Header Single Row Vertical with SMT Solder Tabs (Selective Gold), pitch 3mm, 6p; Manufacturer: Wurth Elektronik; Contact Resistance: 10mOhm; Insulation Resistance: >1000MOhm; Rated Current: 5A; Working Voltage: 250V (AC); Manufacturer Part Number: 662306131824; Category: Wire-to-Board Connectors; Match Code: WR-MPC3; ComponentLink1Description: Website Link; ComponentLink1URL: https://www.we-online.com/redexpert/article/662306131824?ad; ComponentLink2Description: Datasheet Link; ComponentLink2URL: https://www.we-online.com/redexpert/spec/662306131824?ad; Mount: Surface Mount; Operating Temperature Max: 105°C; Operating Temperature Min: -40°C; Packaging: Tape and Reel; Gender: Male; Number of Pins: 6; Number of Rows: 1; Orientation: Vertical; Pitch: 3mm
footprint 662306131824
pins: 1, 2, 3, 4, 5, 6

## 662306135922
designator P?  (value not drawn)
WR-MPC3 SMT Male Vertical Header with THT Retention Clip, pitch 3mm, 6p; Manufacturer: Wurth Elektronik; Contact Resistance: 10mOhm; Insulation Resistance: >1000MOhm; Rated Current: 5A; Working Voltage: 250V (AC); Manufacturer Part Number: 662306135922; Category: Wire-to-Board Connectors; Match Code: WR-MPC3; ComponentLink1Description: Website Link; ComponentLink1URL: https://www.we-online.com/redexpert/article/662306135922?ad; ComponentLink2Description: Datasheet Link; ComponentLink2URL: https://www.we-online.com/redexpert/spec/662306135922?ad; Mount: Surface Mount; Operating Temperature Max: 105°C; Operating Temperature Min: -40°C; Packaging: Tape and Reel with Cap; Length: 21.65mm; Width: 6.63mm; Height: 9.9mm; Gender: Male; Number of Pins: 6; Number of Rows: 1; Orientation: Vertical; Pitch: 3mm
footprint 662306135922
pins: 1, 2, 3, 4, 5, 6

## 662306231822
designator P?  (value not drawn)
WR-MPC3 SMT Male Vertical Header with SMT Solder Tab, pitch 3mm, 6p; Manufacturer: Wurth Elektronik; Contact Resistance: 10mOhm; Insulation Resistance: >1000MOhm; Rated Current: 5A; Working Voltage: 250V (AC); Manufacturer Part Number: 662306231822; Category: Wire-to-Board Connectors; Match Code: WR-MPC3; ComponentLink1Description: Website Link; ComponentLink1URL: https://www.we-online.com/redexpert/article/662306231822?ad; ComponentLink2Description: Datasheet Link; ComponentLink2URL: https://www.we-online.com/redexpert/spec/662306231822?ad; Mount: Surface Mount; Operating Temperature Max: 105°C; Operating Temperature Min: -40°C; Packaging: Tape and Reel with Cap; Length: 12.7mm; Width: 11.4mm; Height: 11.4mm; Gender: Male; Number of Pins: 6; Number of Rows: 2; Orientation: Vertical; Pitch: 3mm
footprint 662306231822
pins: 1, 2, 3, 4, 5, 6

## 662306231824
designator P?  (value not drawn)
WR-MPC3 SMT Male Header Dual Row Vertical with SMT Solder Tabs (Selective Gold), pitch 3mm, 6p; Manufacturer: Wurth Elektronik; Contact Resistance: 10mOhm; Insulation Resistance: >1000MOhm; Rated Current: 5A; Working Voltage: 250V (AC); Manufacturer Part Number: 662306231824; Category: Wire-to-Board Connectors; Match Code: WR-MPC3; ComponentLink1Description: Website Link; ComponentLink1URL: https://www.we-online.com/redexpert/article/662306231824?ad; ComponentLink2Description: Datasheet Link; ComponentLink2URL: https://www.we-online.com/redexpert/spec/662306231824?ad; Mount: Surface Mount; Operating Temperature Max: 105°C; Operating Temperature Min: -40°C; Packaging: Tape and Reel; Gender: Male; Number of Pins: 6; Number of Rows: 2; Orientation: Vertical; Pitch: 3mm
footprint 662306231824
pins: 1, 2, 3, 4, 5, 6

## 662306235922
designator P?  (value not drawn)
WR-MPC3 SMT Male Vertical Header with THT Retention Clip, pitch 3mm, 6p; Manufacturer: Wurth Elektronik; Contact Resistance: 10mOhm; Insulation Resistance: >1000MOhm; Rated Current: 5A; Working Voltage: 250V (AC); Manufacturer Part Number: 662306235922; Category: Wire-to-Board Connectors; Match Code: WR-MPC3; ComponentLink1Description: Website Link; ComponentLink1URL: https://www.we-online.com/redexpert/article/662306235922?ad; ComponentLink2Description: Datasheet Link; ComponentLink2URL: https://www.we-online.com/redexpert/spec/662306235922?ad; Mount: Surface Mount; Operating Temperature Max: 105°C; Operating Temperature Min: -40°C; Packaging: Tape and Reel with Cap; Length: 12.7mm; Width: 11.4mm; Height: 9.9mm; Gender: Male; Number of Pins: 6; Number of Rows: 2; Orientation: Vertical; Pitch: 3mm
footprint 662306235922
pins: 1, 2, 3, 4, 5, 6

## 662308131824
designator P?  (value not drawn)
WR-MPC3 SMT Male Header Single Row Vertical with SMT Solder Tabs (Selective Gold), pitch 3mm, 8p; Manufacturer: Wurth Elektronik; Contact Resistance: 10mOhm; Insulation Resistance: >1000MOhm; Rated Current: 5A; Working Voltage: 250V (AC); Manufacturer Part Number: 662308131824; Category: Wire-to-Board Connectors; Match Code: WR-MPC3; ComponentLink1Description: Website Link; ComponentLink1URL: https://www.we-online.com/redexpert/article/662308131824?ad; ComponentLink2Description: Datasheet Link; ComponentLink2URL: https://www.we-online.com/redexpert/spec/662308131824?ad; Mount: Surface Mount; Operating Temperature Max: 105°C; Operating Temperature Min: -40°C; Packaging: Tape and Reel; Gender: Male; Number of Pins: 8; Number of Rows: 1; Orientation: Vertical; Pitch: 3mm
footprint 662308131824
pins: 1, 2, 3, 4, 5, 6, 7, 8

## 662308231822
designator P?  (value not drawn)
WR-MPC3 SMT Male Vertical Header with SMT Solder Tab, pitch 3mm, 8p; Manufacturer: Wurth Elektronik; Contact Resistance: 10mOhm; Insulation Resistance: >1000MOhm; Rated Current: 5A; Working Voltage: 250V (AC); Manufacturer Part Number: 662308231822; Category: Wire-to-Board Connectors; Match Code: WR-MPC3; ComponentLink1Description: Website Link; ComponentLink1URL: https://www.we-online.com/redexpert/article/662308231822?ad; ComponentLink2Description: Datasheet Link; ComponentLink2URL: https://www.we-online.com/redexpert/spec/662308231822?ad; Mount: Surface Mount; Operating Temperature Max: 105°C; Operating Temperature Min: -40°C; Packaging: Tape and Reel with Cap; Length: 15.7mm; Width: 11.4mm; Height: 11.4mm; Gender: Male; Number of Pins: 8; Number of Rows: 2; Orientation: Vertical; Pitch: 3mm
footprint 662308231822
pins: 1, 2, 3, 4, 5, 6, 7, 8

## 662308231824
designator P?  (value not drawn)
WR-MPC3 SMT Male Header Dual Row Vertical with SMT Solder Tabs (Selective Gold), pitch 3mm, 8p; Manufacturer: Wurth Elektronik; Contact Resistance: 10mOhm; Insulation Resistance: >1000MOhm; Rated Current: 5A; Working Voltage: 250V (AC); Manufacturer Part Number: 662308231824; Category: Wire-to-Board Connectors; Match Code: WR-MPC3; ComponentLink1Description: Website Link; ComponentLink1URL: https://www.we-online.com/redexpert/article/662308231824?ad; ComponentLink2Description: Datasheet Link; ComponentLink2URL: https://www.we-online.com/redexpert/spec/662308231824?ad; Mount: Surface Mount; Operating Temperature Max: 105°C; Operating Temperature Min: -40°C; Packaging: Tape and Reel; Gender: Male; Number of Pins: 8; Number of Rows: 2; Orientation: Vertical; Pitch: 3mm
footprint 662308231824
pins: 1, 2, 3, 4, 5, 6, 7, 8

## 662308235922
designator P?  (value not drawn)
WR-MPC3 SMT Male Vertical Header with THT Retention Clip, pitch 3mm, 8p; Manufacturer: Wurth Elektronik; Contact Resistance: 10mOhm; Insulation Resistance: >1000MOhm; Rated Current: 5A; Working Voltage: 250V (AC); Manufacturer Part Number: 662308235922; Category: Wire-to-Board Connectors; Match Code: WR-MPC3; ComponentLink1Description: Website Link; ComponentLink1URL: https://www.we-online.com/redexpert/article/662308235922?ad; ComponentLink2Description: Datasheet Link; ComponentLink2URL: https://www.we-online.com/redexpert/spec/662308235922?ad; Mount: Surface Mount; Operating Temperature Max: 105°C; Operating Temperature Min: -40°C; Packaging: Tape and Reel with Cap; Length: 15.7mm; Width: 11.4mm; Height: 9.9mm; Gender: Male; Number of Pins: 8; Number of Rows: 2; Orientation: Vertical; Pitch: 3mm
footprint 662308235922
pins: 1, 2, 3, 4, 5, 6, 7, 8